# Altium schematic symbol library wulpus_hv.SCHLIB: 28 symbols
Pins are listed as number, name and electrical type; pins without a type are passive.

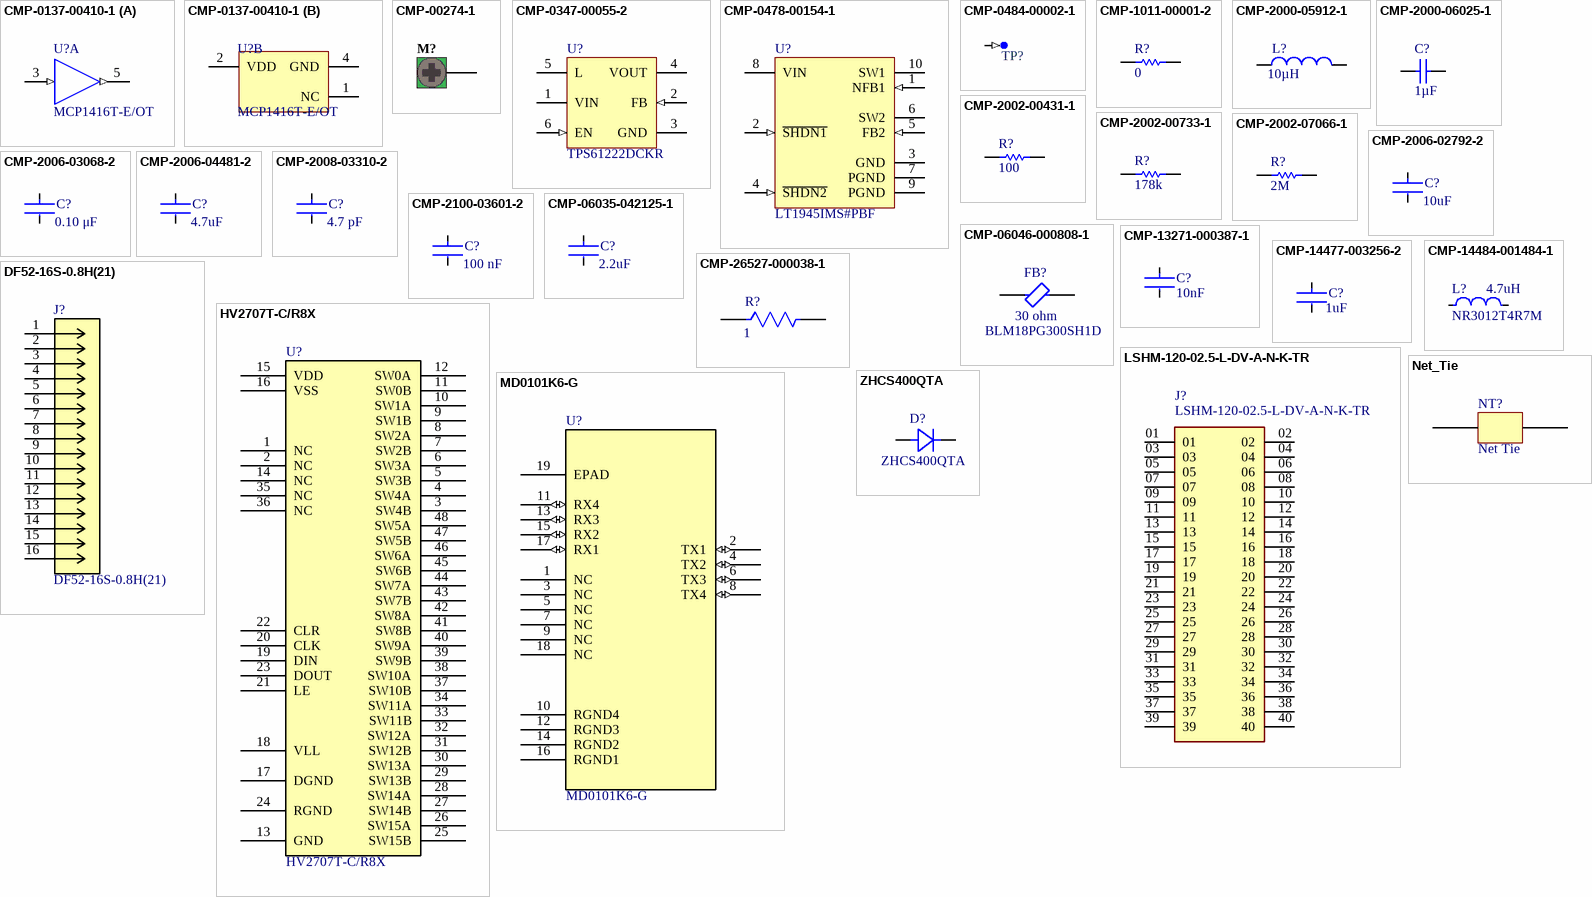
[diagram p0: symbols CMP-0137-00410-1 to ZHCS400QTA]

## CMP-0137-00410-1
designator U?, comment MCP1416T-E/OT
Tiny 1.5A, High-Speed Power MOSFET Driver, Non Inverting, Extended Temperature, Tape and Reel; PackageDescription: 5-Lead Plastic Small Outline Transistor (OT) [SOT-23]; Code_IPC: SOT23-5; PackageVersion: revBB, Aug-2009; PackageReference: SOT-23-OT5; DatasheetVersion: revC, Dec-2008
footprint SOT-23-OT5_M (SOT23, 5-Leads, Body 2.9x1.6mm, Pitch 0.95mm, Lead Span 2.7mm, IPC Low Density)
footprint SOT-23-OT5_L (SOT23, 5-Leads, Body 2.9x1.6mm, Pitch 0.95mm, Lead Span 2.7mm, IPC High Density)
footprint SOT-23-OT5_N (SOT23, 5-Leads, Body 2.9x1.6mm, Pitch 0.95mm, Lead Span 2.7mm, IPC Medium Density)
part A pins: 3 IN (in), 5 OUT (out)
part B pins: 1 NC, 2 VDD (power), 4 GND (power)

## CMP-00274-1
designator M?, comment Mounting Hole for AFE PCB  (value not drawn)  (no BOM)
M2 Hole, 2.4mm drill, 5mm landing pads, 3mm pad in middle layers, no overlay; ClassName: Mounting Hole
footprint Hole M2 (M2 Hole, 2.4mm drill, 5mm landing pads, 3mm pad in middle layers, no overlay)
pins: 1

## CMP-0347-00055-2
designator U?, comment TPS61222DCKR
Boost Voltage Converter with 0.7 to 5.5 V Input and 5 V Output, -40 to 85 degC, 6-Pin SC70 (DCK), Green (RoHS & no Sb/Br); Manufacturer: Texas Instruments; Vout(Min)(V): 5; SubFamily: Step-Up Regulator; Vin(Min)(V): 0.7; Switching Frequency(Max)(kHz): 2000; Regulated Outputs(#): 1; Vin(Max)(V): 5.5; Topology: Boost; Vout(Max)(V): 5; PackageVersion: revG, Jan-2007; Mounting Technology: Surface Mount; ComponentLink2URL: http://www.ti.com/litv/pdf/mpds114c; PackageReference: DCK0006A; DatasheetVersion: SLVS776; PartNumber: TPS61222DCKR; ComponentLink1Description: Datasheet; ComponentLink1URL: http://www.ti.com/general/docs/lit/getliterature.tsp?genericPartNumber=TPS61222&fileType=pdf; ComponentLink2Description: Package Specification; Eco-Plan: Green (RoHS & no Sb/Br); Code_JEDEC: MO-203-AB; PackageDescription: 6-Pin Plastic Small-Outline Package, 2 x 1.3 mm Body, 0.65 mm Pitch, 2.1 mm Lead Span
footprint DCK0006A_L (SOT23, 6-Leads, Body 2.15x1.4mm, Pitch 0.65mm, IPC High Density)
footprint DCK0006A_N (SOT23, 6-Leads, Body 2.15x1.4mm, Pitch 0.65mm, IPC Medium Density)
footprint DCK0006A_M (SOT23, 6-Leads, Body 2.15x1.4mm, Pitch 0.65mm, IPC Low Density)
pins: 1 VIN (power) "Boost converter input voltage", 2 FB (in) "Voltage feedback of adjustable version. Must be connected to VOUT at fixed output voltage versions.", 3 GND (power) "Control / logic and power ground", 4 VOUT (power) "Boost converter output voltage", 5 L (power) "Connection for Inductor", 6 EN (in) "Enable input (1: enabled, 0: disabled). Must be actively tied high or low."

## CMP-0478-00154-1
designator U?, comment LT1945IMS#PBF
Dual Micropower DC/DC Converter with Positive and Negative Outputs, 1.2 to 15 V Vin, 10-pin SOP (MS-10), -40 to 125 degC, Pb-Free; Manufacturer: Linear Technology; Vin Min(V): 1.2; Vin Max(V): 15; Number of Outputs: 2; Mounting Technology: Surface Mount; ComponentLink3Description: Package Specification; ComponentLink3URL: http://cds.linear.com/docs/en/packaging/05081661_F_MS.pdf; PackageVersion: Rev. E, 06/2010; ComponentLink2URL: http://cds.linear.com/docs/en/datasheet/1945fa.pdf; PartNumber: LT1945IMS#PBF; DatasheetVersion: Rev. A; PackageReference: MS-10; PackageDescription: 10-Pin Plastic MSOP, Body 3 x 3 mm, Pitch 0.5 mm; ComponentLink2Description: Datasheet; RoHS: TRUE; ComponentLink1URL: http://www.linear.com/; ComponentLink1Description: Manufacturer URL
footprint LT-MS-10_L (SOP, 10-Leads, Body 3.1x3.1mm, Pitch 0.5mm, IPC High Density)
footprint LT-MS-10_M (SOP, 10-Leads, Body 3.1x3.1mm, Pitch 0.5mm, IPC Low Density)
footprint LT-MS-10_N (SOP, 10-Leads, Body 3.1x3.1mm, Pitch 0.5mm, IPC Medium Density)
pins: 1 NFB1 (in) "Feedback Pin for Switcher 1. Set the output voltage by selecting values for R1 and R2.", 2 ~{SHDN1} (in) "Shutdown Pin for Switcher 1. Tie this pin to 0.9V or higher to enable device. Tie below 0.25V to turn it off.", 3 GND (power) "Ground. Tie this pin directly to the local ground plane.", 4 ~{SHDN2} (in) "Shutdown Pin for Switcher 2. Tie this pin to 0.9V or higher to enable device. Tie below 0.25V to turn it off.", 5 FB2 (in) "Feedback Pin for Switcher 2. Set the output voltage by selecting values for R1B and R2B.", 6 SW2 (power) "Switch Pin for Switcher 2. This is the collector of the internal NPN power switch. Minimize the metal trace area connected to the pin to minimize EMI.", 7 PGND (power) "Power Ground. Tie these pins directly to the local ground plane. Both pins must be tied.", 8 VIN (power) "Input Supply Pin. Bypass this pin with a capacitor as close to the device as possible.", 9 PGND (power) "Power Ground. Tie these pins directly to the local ground plane. Both pins must be tied.", 10 SW1 (power) "Switch Pin for Switcher 1. This is the collector of the internal NPN power switch. Minimize the metal trace area connected to the pin to minimize EMI."

## CMP-0484-00002-1
designator TP?, comment TP-SM-C-100  (value not drawn)  (no BOM)
Test Point, Surface Mount, Circular, Pad Diameter 1 mm
footprint TP-SM-C-100 (Test Point, Surface Mounting, Circular, Pad Diameter 1mm)
pins: 1 (in)

## CMP-1011-00001-2
designator R?, comment Resistance: 0  (hidden comment: RC0402JR-070RL)
Manufacturer: Yageo / Phycomp; Part Number: RC0402JR-070RL
footprint RESC1005X40X25NL05T10 (Chip Resistor, 2-Leads, Body 1.00x0.50mm, IPC Medium Density)
footprint RESC1005X40X25ML05T10 (Chip Resistor, 2-Leads, Body 1.00x0.50mm, IPC Low Density)
footprint RESC1005X40X25LL05T10 (Chip Resistor, 2-Leads, Body 1.00x0.50mm, IPC High Density)
pins: 1, 2
1 alternate drawing of the same symbol

## CMP-2000-05912-1
designator L?, comment Inductance: 10µH  (hidden comment: B82422A1103K100)
Wirewound Inductor, 10 uF, +/- 10%, 180 mA, -55 to 125 degC, 2-Pin SMD, RoHS, Tape and Reel; Manufacturer: EPCOS-(TDK); Frequency - Test: 1MHz; Current Rating: 180mA; Material - Core: Ferrite; DC Resistance (DCR): 1.6OhmMax; Q @ Freq: 27@2.52MHz; Frequency - Self Resonant: 25MHz; Shielding: Unshielded; Series: SIMID; Size / Dimension: 0.126"Lx0.098"W(3.20mmx2.50mm); Mounting Type: SurfaceMount; Current - Saturation: -; Operating Temperature: -; Datasheet URL: https://en.tdk.eu/inf/30/db/ind_2008/b82422a_100.pdf; Ratings: AEC-Q200; Category: Inductors,Coils,Chokes; Mounting Technology: SurfaceMount; Height - Seated (Max): 0.083"(2.10mm); Family: FixedInductors; Package / Case: 1210(3225Metric); Tolerance: ±10%; Manufacturer URL: http://www.tdk.com/; Datasheet Version: 10/2012; Type: Wirewound; Packaging: CutTape(CT); Package Description: 2-Pin Surface Mount Device, Body 3.2 x 2.5 mm; Package Reference: B82422A1103K100
footprint TDK-B82422A1103K100_V (Molded Inductor, 2-Leads, Body 3.5x2.8mm)
pins: 1, 2

## CMP-2000-06025-1
designator C?, comment Capacitance: 1µF  (hidden comment: C1608X5R1H105K080AB)
Chip Capacitor, 1 uF, +/- 10%, 50 V, -55 to 85 degC, 0603 (1608 Metric), RoHS, Tape and Reel; Manufacturer: TDK; PCN Part Number: MLCCPartNumberChange30/Nov/2012; Other Names: 445-7468-6; Online Catalog: CSeries,GeneralPurpose; Product Training Modules: CSeriesGeneralApplicationsSEAT,CCV,andTVCLDesignToolsGuidetoReplacinganElectrolyticCapacitorwithanMLCC; Voltage - Rated: 50V; Design Resources: 20WNon-IsolatedBuckLEDDriverUsingPLLNK460KG; Temperature Coefficient: X5R; Series: C; Datasheet Version: 08/2016; Package Description: 2-Pin Surface Mount Device, Body 1.6 x 0.8 mm; Mounting Technology: SurfaceMount; Features: -; Size / Dimension: 0.063"Lx0.031"W(1.60mmx0.80mm); Lead Spacing: -; Operating Temperature: -55°C~85°C; Tolerance: ±10%; Height - Seated (Max): -; Mounting Type: SurfaceMount,MLCC; Ratings: -; Standard Package: 1; Applications: GeneralPurpose; Datasheet URL: https://product.tdk.com/info/en/catalog/datasheets/mlcc_commercial_general_en.pdf; Category: Capacitors; Lead Style: -; Packaging: Digi-Reel®; RoHS Information: RoHSCertificate-MLCC; Package / Case: 0603(1608Metric); Package Reference: 0603; Manufacturer URL: http://www.tdk.com/; Thickness (Max): 0.035"(0.90mm); Family: CeramicCapacitors
footprint CAPC1608X90X20LL10 (Chip Capacitor, 2-Leads, Body 1.70x0.90mm, IPC High Density)
footprint CAPC1608X90X20ML10 (Chip Capacitor, 2-Leads, Body 1.70x0.90mm, IPC Low Density)
footprint CAPC1608X90X20NL10 (Chip Capacitor, 2-Leads, Body 1.70x0.90mm, IPC Medium Density)
pins: 1, 2

## CMP-2002-00431-1
designator R?, comment Resistance: 100  (hidden comment: ERJ-2GEJ101X)
Manufacturer: Panasonic; Part Number: ERJ-2GEJ101X
footprint RESC1005X40X25NL05T05 (Chip Resistor, 2-Leads, Body 1.00x0.50mm, IPC Medium Density)
footprint RESC1005X40X25ML05T05 (Chip Resistor, 2-Leads, Body 1.00x0.50mm, IPC Low Density)
footprint RESC1005X40X25LL05T05 (Chip Resistor, 2-Leads, Body 1.00x0.50mm, IPC High Density)
pins: 1, 2
1 alternate drawing of the same symbol

## CMP-2002-00733-1
designator R?, comment Resistance: 178k  (hidden comment: ERJ-2RKF1783X)
Manufacturer: Panasonic; Part Number: ERJ-2RKF1783X
footprint RESC1005X40X25ML05T05 (Chip Resistor, 2-Leads, Body 1.00x0.50mm, IPC Low Density)
footprint RESC1005X40X25LL05T05 (Chip Resistor, 2-Leads, Body 1.00x0.50mm, IPC High Density)
footprint RESC1005X40X25NL05T05 (Chip Resistor, 2-Leads, Body 1.00x0.50mm, IPC Medium Density)
pins: 1, 2
1 alternate drawing of the same symbol

## CMP-2002-07066-1
designator R?, comment Resistance: 2M  (hidden comment: RC0402FR-072ML)
Manufacturer: Yageo / Phycomp; Part Number: RC0402FR-072ML
footprint RESC1005X40X25NL05T10 (Chip Resistor, 2-Leads, Body 1.00x0.50mm, IPC Medium Density)
footprint RESC1005X40X25LL05T10 (Chip Resistor, 2-Leads, Body 1.00x0.50mm, IPC High Density)
footprint RESC1005X40X25ML05T10 (Chip Resistor, 2-Leads, Body 1.00x0.50mm, IPC Low Density)
pins: 1, 2
1 alternate drawing of the same symbol

## CMP-2006-02792-2
designator C?, comment Capacitance: 10uF  (hidden comment: GRM188R60J106ME47D)
Chip Multilayer Ceramic Capacitors for General Purpose, 0603, 10uF, X5R, 15%, 20%, 6.3V; Packaging: Tape and Reel; Voltage Rating (DC): 6.3V; Width: 0.031inch; Termination: SMD/SMT; Dielectric: X5R; Package Quantity: 4000; Voltage Rating: 6.3V; Case/Package: 0603; Min Operating Temperature: -55°C; Voltage: 6.3V; Length: 1.6mm; Thickness: 0.035inch; Lead Free: Lead Free; Depth: 0.8mm; Case Code (Imperial): 0603; Max Operating Temperature: 85°C; Material: Ceramic; Height: 0.8mm; Tolerance: 20%; Mount: Surface Mount; REACH SVHC: No SVHC; Radiation Hardening: No; Case Code (Metric): 1608
footprint FP-GRM188-0_1-e0_2_0_55-IPC_A
footprint FP-GRM188-0_1-e0_2_0_55-IPC_C
footprint FP-GRM188-0_1-e0_2_0_55-MFG
footprint FP-GRM188-0_1-e0_2_0_55-IPC_B
pins: 1, 2

## CMP-2006-03068-2
designator C?, comment value 0.10 μF  (hidden comment: C0603C104M5RACTU)
CAP CER 0.1UF 50V 20% X7R 0603; Manufacturer: KEMET; Material: Ceramic; Tolerance: 0.2; Temperature Coefficient: 30ppm/°C; Automotive Grade: Grade 1; Temperature Range High: +125°C; Voltage Rating: 50 V; Device Class L3: Ceramic Capacitors; Manufacturer Part Number: C0603C104M5RACTU; Height: 0.87mm; Category: Cap; RoHS: TRUE; Digikey Description: CAP CER 0.1UF 50V 20% X7R 0603; ComponentLink2URL: https://api.kemet.com/component-edge/download/datasheet/C0603C100J5GACAUTO.pdf; Lead Free: Yes; Temperature Range Low: -55°C; Device Class L1: Passive Components; ComponentLink2Description: Datasheet; Temperature Characteristic: X7R; Automotive: Yes; Temperature: -55°C to +125°C; Octopart: https://octopart.com/c0603c104m5ractu-kemet-11855687; Device Class L2: Capacitors; Package: C0603C-CF; Mouser Description: Multilayer Ceramic Capacitors MLCC - SMD/SMT 50volts 0.1uF X7R 20%; Capacitance: 0.10 μF
footprint FP-C0603C-CF-MFG
footprint FP-C0603C-CF-IPC_C
footprint FP-C0603C-CF-IPC_B
footprint FP-C0603C-CF-IPC_A
pins: 1, 2

## CMP-2006-04481-2
designator C?, comment Capacitance: 4.7uF  (hidden comment: 06036D475KAT2A)
General Purpose Ceramic Capacitor, 0603, 4.7uF, 10%, X5R, 15%, 6.3V; Tolerance: 20%; Voltage Rating (DC): 6.3V; RoHS Compliant: Yes; Thickness: 0.035inch; Voltage: 6.3V; Number of Pins: 2; Case Code (Metric): 1608; Dielectric: X5R; Height: 0.9mm; Case Code (Imperial): 0603; Contact Plating: Tin; REACH SVHC: No SVHC; Package Quantity: 1; Case/Package: 0603; Lead Free: Lead Free; Series: -; Termination: SMD/SMT; Mount: Surface Mount; Min Operating Temperature: -55°C; Construction: Flat; Packaging: Tape and Reel; Max Operating Temperature: 85°C; Dielectric Material: Ceramic; Voltage Rating: 6.3V; Length: 1.6mm; Depth: 0.81mm; Radiation Hardening: No; Width: 0.032inch
footprint FP-0603-L_1_6_0_15-W_0_81-MFG
footprint FP-0603-L_1_6_0_15-W_0_81-IPC_B
footprint FP-0603-L_1_6_0_15-W_0_81-IPC_C
footprint FP-0603-L_1_6_0_15-W_0_81-IPC_A
pins: 1, 2

## CMP-2008-03310-2
designator C?, comment Capacitance: 4.7 pF  (hidden comment: C0402C479C5GACTU)
CAP CER 4.7PF 50V NP0 0402; Manufacturer: Kemet; Material: Ceramic; Tolerance: 0.25 pF; Temperature Coefficient: 15%; Temperature Characteristic: C0G; Manufacturer Part Number: C0402C479C5GACTU; Lead Free: Yes; Device Class L1: Passive Components; ComponentLink2Description: Datasheet; Temperature: -55°C to +125°C; Digikey Description: CAP CER 4.7PF 50V NP0 0402; Ipc Land Pattern Name: CAPC10050X50; ComponentLink2URL: https://content.kemet.com/datasheets/KEM_C1002_X7R_SMD.pdf; Octopart: https://octopart.com/c0402c479c5gactu-kemet-9144199; Mouser Description: Multilayer Ceramic Capacitors MLCC - SMD/SMT 50volts 4.7pF C0G .25pF; Automotive: No; Voltage Rating: 50 V; Device Class L3: Ceramic Capacitors; Category: Cap; Value: 4.7 pF; Package: C0402-BB; Height: 0.55mm; Temperature Range Low: -55°C; RoHS: TRUE; Device Class L2: Capacitors; Temperature Range High: +125°C
footprint FP-C0402-BB-MFG
footprint FP-C0402-BB-IPC_C
footprint FP-C0402-BB-IPC_B
footprint FP-C0402-BB-IPC_A
pins: 1, 2

## CMP-2100-03601-2
designator C?, comment Capacitance: 100 nF  (hidden comment: CC0603KRX7R9BB104)
CAP CER 0.1UF 50V X7R 0603; Manufacturer: YAGEO; Material: Ceramic; Temperature Coefficient: 15%; Tolerance: 0.1; Value: 100 nF; Height: 0.9mm; Voltage: 50 V; ComponentLink2Description: Datasheet; Device Class L2: Capacitors; Temperature Range High: +125°C; Category: Cap; Footprint Url: http://www.yageo.com/exep/pages/download/literatures/UPY-C_GEN_24.pdf; ComponentLink2URL: http://www.yageo.com/documents/recent/UPY-GPHC_X7R_6.3V-to-50V_18.pdf; Package: CC0603-DA; Temperature: -55°C to +125°C; Voltage Rating: 50 V; Temperature Characteristic: X7R; Device Class L1: Passive Components; Temperature Range Low: -55°C; Manufacturer Part Number: CC0603KRX7R9BB104; RoHS: TRUE; Automotive: No; Device Class L3: Ceramic Capacitors; Octopart: https://octopart.com/cc0603krx7r9bb104-yageo-42244635; Mouser Description: Multilayer Ceramic Capacitor, CC Series, 0.1 - F, - 10%, X7R, 50 V, 0603 [1608 Metric]; Lead Free: Yes; Digikey Description: CAP CER 0.1UF 50V X7R 0603
footprint FP-CC0603-DA-MFG
footprint FP-CC0603-DA-IPC_C
footprint FP-CC0603-DA-IPC_B
footprint FP-CC0603-DA-IPC_A
pins: 1, 2

## CMP-06035-042125-1
designator C?, comment Capacitance: 2.2uF  (hidden comment: GRM188R61H225KE11D)
Chip Multilayer Ceramic Capacitors for General Purpose, 0603, 2.2uF, X5R, 15%, 10%, 50V; Case Code (Metric): 1608; Packaging: Cut Tape; REACH SVHC: No SVHC; Material: Ceramic; Voltage Rating: 50V; Min Operating Temperature: -55°C; Length: 0.063inch; Case Code (Imperial): 0603; Tolerance: 10%; Thickness: 0.039inch; Height: 0.8mm; Case/Package: 0603; Voltage Rating (DC): 50V; Dielectric: X5R; Mount: Surface Mount; Max Operating Temperature: 85°C; Width: 0.031inch
footprint FP-GRM188-0_2-IPC_C
footprint FP-GRM188-0_2-IPC_A
footprint FP-GRM188-0_2-IPC_B
footprint FP-GRM188-0_2-MFG
pins: 1, 2

## CMP-06046-000808-1
designator FB?, comment BLM18PG300SH1D  Impedance: 30 ohm
Chip Ferrite Bead, 0603, 30Ω @ 100MHz, 0.05Ω, , 1A; Tolerance: 25%; Shielding: Unshielded; DC Resistance (DCR): 50mR; Number of Lines: 1; Width: 0.031inch; Termination: SMD/SMT; Case Code (Metric): 1608; Max DC Current: 1A; Case Code (Imperial): 0603; Height: 0.037inch; Max Operating Temperature: 125°C; Max Current Rating: 1A; Case/Package: 0603; Length: 1.6mm; Number of Circuits: 1; Test Frequency: 100MHz; Contact Plating: Tin; Ratings: AEC-Q200; Package Quantity: 1; Mount: Surface Mount; Packaging: Tape and Reel; Min Operating Temperature: -55°C
footprint FP-BLM18-0_15-t0_8-IPC_A
footprint FP-BLM18-0_15-t0_8-IPC_B
footprint FP-BLM18-0_15-t0_8-MFG
footprint FP-BLM18-0_15-t0_8-IPC_C
pins: 1, 2

## CMP-13271-000387-1
designator C?, comment Capacitance: 10nF  (hidden comment: CL05B103KB5NNNC)
Cap Ceramic 10nF 50V X7R ±10% SMD 0402 +125°C Paper T/R; Depth: 0.5mm; Length: 1mm; Lead Free: Lead Free; Case Code (Metric): 1005; Width: 0.02inch; Min Operating Temperature: -55°C; Thickness: 0.022inch; Package Quantity: 1; Mount: Surface Mount; Height: 0.5mm; Voltage: 50V; Material: Ceramic; Tolerance: 10%; Case Code (Imperial): 0402; Radiation Hardening: No; Case/Package: 0402; Max Operating Temperature: 125°C; Voltage Rating (DC): 50V; Contact Plating: Tin; Packaging: Tape and Reel; Voltage Rating: 50V; Dielectric: X7R
footprint FP-CL165-IPC_C
footprint FP-CL165-IPC_B
footprint FP-CL165-IPC_A
pins: 1, 2

## CMP-14477-003256-2
designator C?, comment Capacitance: 1uF  (hidden comment: GMK316BJ105KLHT)
None; Voltage Rating (DC): 35V; Dielectric: X5R; Tolerance: 10%; Halogen Free: Halogen Free; Max Operating Temperature: 85°C; Min Operating Temperature: -55°C; Termination: SMD/SMT; Length: 0.126inch; Package Quantity: 2000; Voltage Rating: 35V; Width: 0.063inch; Case/Package: 1206; Case Code (Imperial): 1206; Case Code (Metric): 3216; Mount: Surface Mount; Packaging: Tape and Reel; Ratings: AEC-Q200; RoHS Compliant: Yes; Height: 1.6mm; Lead Free: Lead Free; Thickness: 0.071inch
footprint FP-1206-L_3_2_0_15-W_1_6-IPC_B
footprint FP-1206-L_3_2_0_15-W_1_6-MFG
footprint FP-1206-L_3_2_0_15-W_1_6-IPC_C
simulation model GMK316BJ105_LHT
footprint FP-1206-L_3_2_0_15-W_1_6-IPC_A
pins: 1, 2

## CMP-14484-001484-1
designator L?, comment NR3012T4R7M  Inductance: 4.7uH
SMD Power Inductors 4.7uH ±20% 0.77A 0.13Ω; Saturation Current: 770mA; Self Resonant Frequency: 48MHz; RMS Current (Irms): 980mA; Test Frequency: 100kHz; Core Material: Ferrite; Shielding: Shielded; DC Resistance (DCR): 156mR; Series: NR; Case Code (Metric): 3030; Halogen Free: Halogen Free; Tolerance: 20%; Resistor Type: Wirewound; Mount: Surface Mount; Case/Package: 1212; Max DC Current: 770mA; Length: 0.118inch; Height - Seated (Max): 0.047inch; Termination: SMD/SMT; Package Quantity: 2000; DC Current: 980mA; Depth: 3.1mm; Packaging: Tape and Reel; Height: 1.2mm; Current Rating: 980mA; Min Operating Temperature: -25°C; Case Code (Imperial): 1212; Lead Free: Lead Free; Military Standard: Not; Width: 0.118inch; Max Operating Temperature: 120°C; Radiation Hardening: No; Inductance Tolerance: 20%; RoHS Compliant: Yes
footprint FP-NR3012-MFG
pins: 1, 2

## CMP-26527-000038-1
designator R?, comment Resistance: 1  (hidden comment: CSR0402FK1R00)
RES 1 OHM 1% 1/8W 0402; Max Power Dissipation: 125mW; Temperature Coefficient: 200ppm/°C; Max Operating Temperature: 155°C; RoHS Compliant: Yes; Case Code (Imperial): 0402; Package Quantity: 1000; Mount: Surface Mount; Width: 0.02inch; Case/Package: 0402; Packaging: Tape and Reel; Resistor Type: Thick Film; Tolerance: 1%; Length: 0.039inch; Case Code (Metric): 1005; Min Operating Temperature: -55°C; Number of Terminations: 2; Series: CSR; Height: 0.017inch
footprint FP-CSR0402-MFG
footprint FP-CSR0402-IPC_C
footprint FP-CSR0402-IPC_B
footprint FP-CSR0402-IPC_A
pins: 1, 2

## DF52-16S-0.8H(21)
designator J?
No Description Available; Mfr_Name: Hirose; Copyright: Copyright (C) 2022 Ultra Librarian. All rights reserved.; Manufacturer_Part_Number: DF52-16S-0.8H(21); RefDes: RefDes; Type: DEV
footprint CONN_DF52-16S-0.8H(21)_HIR
pins: 1, 2, 3, 4, 5, 6, 7, 8, 9, 10, 11, 12, 13, 14, 15, 16

## HV2707T-C/R8X
designator U?
16-CH 200V No Hv Bias Switch (SPST), 2 Bleed Resistor 48 LQFP 7X7X1.4MM T/r Rohs Compliant: Yes; Manufacturer: Microchip; Supplier 1: Digi-Key; RoHS: Yes; Category: Decoders and Multiplexers; Stock 1: 440; Pricing 1: 1=19.01000, 25=15.84720, 100=14.65500 (USD); Manufacturer Part Number: HV2707T-C/R8X
footprint LQFP48_7X7MC_MCH
pins: 1 NC, 2 NC, 3 SW4B, 4 SW4A, 5 SW3B, 6 SW3A, 7 SW2B, 8 SW2A, 9 SW1B, 10 SW1A, 11 SW0B, 12 SW0A, 13 GND, 14 NC, 15 VDD, 16 VSS, 17 DGND, 18 VLL, 19 DIN, 20 CLK, 21 LE, 22 CLR, 23 DOUT, 24 RGND, 25 SW15B, 26 SW15A, 27 SW14B, 28 SW14A, 29 SW13B, 30 SW13A, 31 SW12B, 32 SW12A, 33 SW11B, 34 SW11A, 35 NC, 36 NC, 37 SW10B, 38 SW10A, 39 SW9B, 40 SW9A, 41 SW8B, 42 SW8A, 43 SW7B, 44 SW7A, 45 SW6B, 46 SW6A, 47 SW5B, 48 SW5A

## LSHM-120-02.5-L-DV-A-N-K-TR
designator J?
Conn Socket and Terminal Strip HDR/SKT 40 POS 0.5mm Solder ST SMD T/R; Manufacturer: Samtec; Number of Contacts: 40; Supplier 1: Digi-Key; RoHS: Yes; Category: Connectors; Stock 1: 3008; Pricing 1: 1=6.60000, 10=5.97000, 25=5.63960, 50=5.50200, 100=5.22690, 250=4.67672 (USD); Contact Plating: Gold; Contact Material: Bronze; Housing Color: Black; Housing Material: Polymer; Min Operating Temperature: -55°C; Max Operating Temperature: 125°C; Number of Rows: 2; Termination: Solder; Packaging: Tape and Reel; Orientation: Straight; Series: LSH; Length: 14.7mm; Pitch: 0.5mm; Depth: 4.98mm; Radiation Hardening: No; REACH SVHC: No SVHC; RoHS Compliant: Yes; ComponentLink1URL: http://www.farnell.com/datasheets/2372721.pdf?src-supplier=Farnell; ComponentLink1Description: http://www.farnell.com/datasheets/2372721.pdf?src-supplier=Farnell; ComponentLink2URL: http://www.farnell.com/datasheets/2000266.pdf?src-supplier=Farnell; ComponentLink2Description: http://www.farnell.com/datasheets/2000266.pdf?src-supplier=Farnell; ComponentLink3URL: http://components.arrow.com/part/dataview/0323_01943898?src-supplier=Arrow+Europe; ComponentLink3Description: http://components.arrow.com/part/dataview/0323_01943898?src-supplier=Arrow+Europe; ComponentLink4URL: http://components.arrow.com/part/dataview/48680868S8397842N1004?src-supplier=Arrow+Electronics; ComponentLink4Description: http://components.arrow.com/part/dataview/48680868S8397842N1004?src-supplier=Arrow+Electronics; ComponentLink5URL: http://www.farnell.com/datasheets/2000266.pdf?src-supplier=Element14; ComponentLink5Description: http://www.farnell.com/datasheets/2000266.pdf?src-supplier=Element14; ComponentLink6URL: http://suddendocs.samtec.com/prints/lshm-1xx-xx.x-xx-dv-a-x-x-tr-mkt.pdf?src-supplier=Digi-Key; ComponentLink6Description: http://suddendocs.samtec.com/prints/lshm-1xx-xx.x-xx-dv-a-x-x-tr-mkt.pdf?src-supplier=Digi-Key; ComponentLink7URL: ftp://ftp.samtec.com/webfiles/PDF/LSHM.PDF?src-supplier=Avnet; ComponentLink7Description: ftp://ftp.samtec.com/webfiles/PDF/LSHM.PDF?src-supplier=Avnet; ComponentLink8URL: ftp://ftp.samtec.com/webfiles/PDF/LSHM.PDF?src-supplier=Avnet+Europe; ComponentLink8Description: ftp://ftp.samtec.com/webfiles/PDF/LSHM.PDF?src-supplier=Avnet+Europe; ComponentLink9URL: http://www.farnell.com/datasheets/2372721.pdf?src-supplier=Newark; ComponentLink9Description: http://www.farnell.com/datasheets/2372721.pdf?src-supplier=Newark; Supplier Part Number 1: SAM13196CT-ND; Manufacturer Part Number: LSHM-120-02.5-L-DV-A-N-K-TR
footprint SAMTEC_LSHM-120-XX.X-X-DV-A-N-XX
pins: 01, 02, 03, 04, 05, 06, 07, 08, 09, 10, 11, 12, 13, 14, 15, 16, 17, 18, 19, 20, 21, 22, 23, 24, 25, 26, 27, 28, 29, 30, 31, 32, 33, 34, 35, 36, 37, 38, 39, 40

## MD0101K6-G
designator U?
No Description Available; Mfr_Name: Microchip; Copyright: Copyright (C) 2022 Ultra Librarian. All rights reserved.; Manufacturer_Part_Number: MD0101K6-G; RefDes: RefDes; Type: DEV
footprint DFN18_5X5_MCH
pins: 1 NC, 2 TX1 (io), 3 NC, 4 TX2 (io), 5 NC, 6 TX3 (io), 7 NC, 8 TX4 (io), 9 NC, 10 RGND4, 11 RX4 (io), 12 RGND3, 13 RX3 (io), 14 RGND2, 15 RX2 (io), 16 RGND1, 17 RX1 (io), 18 NC, 19 EPAD

## Net_Tie
designator NT?, comment Net Tie  (net tie, no BOM)
footprint Net_Tie_Top_Bottom
pins: 1, 2

## ZHCS400QTA
designator D?
Diode Schottky 40V 1A Automotive 2-Pin SOD-323 T/R; Manufacturer: Diodes; Supplier 1: Farnell; RoHS: Yes; Category: Rectifier Diodes; Stock 1: 385; Pricing 1: 5=0.87300, 10=0.73400, 100=0.49400, 500=0.38800 (CHF); Mount: Surface Mount; Packaging: Tape and Reel; Average Rectified Current: 1A; Max Reverse Voltage (DC): 40V; RoHS Compliant: Yes; ComponentLink1URL: http://www.mouser.com/ds/2/115/ZHCS400Q-959646.pdf?src-supplier=Mouser; ComponentLink1Description: http://www.mouser.com/ds/2/115/ZHCS400Q-959646.pdf?src-supplier=Mouser; Supplier Part Number 1: 3127490; Manufacturer Part Number: ZHCS400QTA
footprint DIODE_SOD323_DIO
pins: 1, 2